# EAGLE library part SMD-FOLIENSTECKVERBINDER-40POL (library Foliensteckverbinder - SMD 40POL)
Name des Bauteiles: -->SMD-Foliensteckverbinder-40POL Daten:40POL, RM0,5, SMD Artikelnummer:#135212 Datenblatt:\\fileserver\cam\Artikel\Datenblätter\135212 __________________________________________ generated by Eagle Description Tool am : 28.11.2013 08:59:44 erstellt von: al
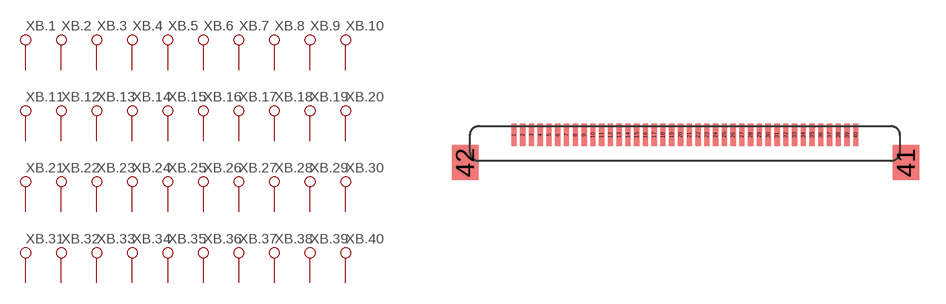
[diagram p0: symbol with the pads of SMD-FOLIENSTECKVERBINDER40POL; footprint SMD-FOLIENSTECKVERBINDER40POL]

Designator prefix XB; gates .1=1 .2=1 .3=1 .4=1 .5=1 .6=1 .7=1 .8=1 .9=1 .10=1 .11=1 .12=1 .13=1 .14=1 .15=1 .16=1 .17=1 .18=1 .19=1 .20=1 .21=1 .22=1 .23=1 .24=1 .25=1 .26=1 .27=1 .28=1 .29=1 .30=1 .31=1 .32=1 .33=1 .34=1 .35=1 .36=1 .37=1 .38=1 .39=1 .40=1

## SMD-FOLIENSTECKVERBINDER-40POLSMD  [SMD-FOLIENSTECKVERBINDER40POL]
1  .1:.1
2  .2:.1
3  .3:.1
4  .4:.1
5  .5:.1
6  .6:.1
7  .7:.1
8  .8:.1
9  .9:.1
10  .10:.1
11  .11:.1
12  .12:.1
13  .13:.1
14  .14:.1
15  .15:.1
16  .16:.1
17  .17:.1
18  .18:.1
19  .19:.1
20  .20:.1
21  .21:.1
22  .22:.1
23  .23:.1
24  .24:.1
25  .25:.1
26  .26:.1
27  .27:.1
28  .28:.1
29  .29:.1
30  .30:.1
31  .31:.1
32  .32:.1
33  .33:.1
34  .34:.1
35  .35:.1
36  .36:.1
37  .37:.1
38  .38:.1
39  .39:.1
40  .40:.1

## Footprint SMD-FOLIENSTECKVERBINDER40POL (pad centres in mm)
smd 0.3 x 1.27: 1 0,0; 2 0.5,0; 3 1,0; 4 1.5,0; 5 2,0; 6 2.5,0; 7 3,0; 8 3.5,0; 9 4,0; 10 4.5,0; 11 5,0; 12 5.5,0; 13 6,0; 14 6.5,0; 15 7,0; 16 7.5,0; 17 8,0; 18 8.5,0; 19 9,0; 20 9.5,0; 21 10,0; 22 10.5,0; 23 11,0; 24 11.5,0; 25 12,0; 26 12.5,0; 27 13,0; 28 13.5,0; 29 14,0; 30 14.5,0; 31 15,0; 32 15.5,0; 33 16,0; 34 16.5,0; 35 17,0; 36 17.5,0; 37 18,0; 38 18.5,0; 39 19,0; 40 19.5,0
smd 1.5 x 2: 41 22.36,-1.593; 42 -2.779,-1.593